# Altium schematic symbol library rlc.SchLib: 218 symbols (part 1 of 2)
Pins are listed as number, name and electrical type; pins without a type are passive.

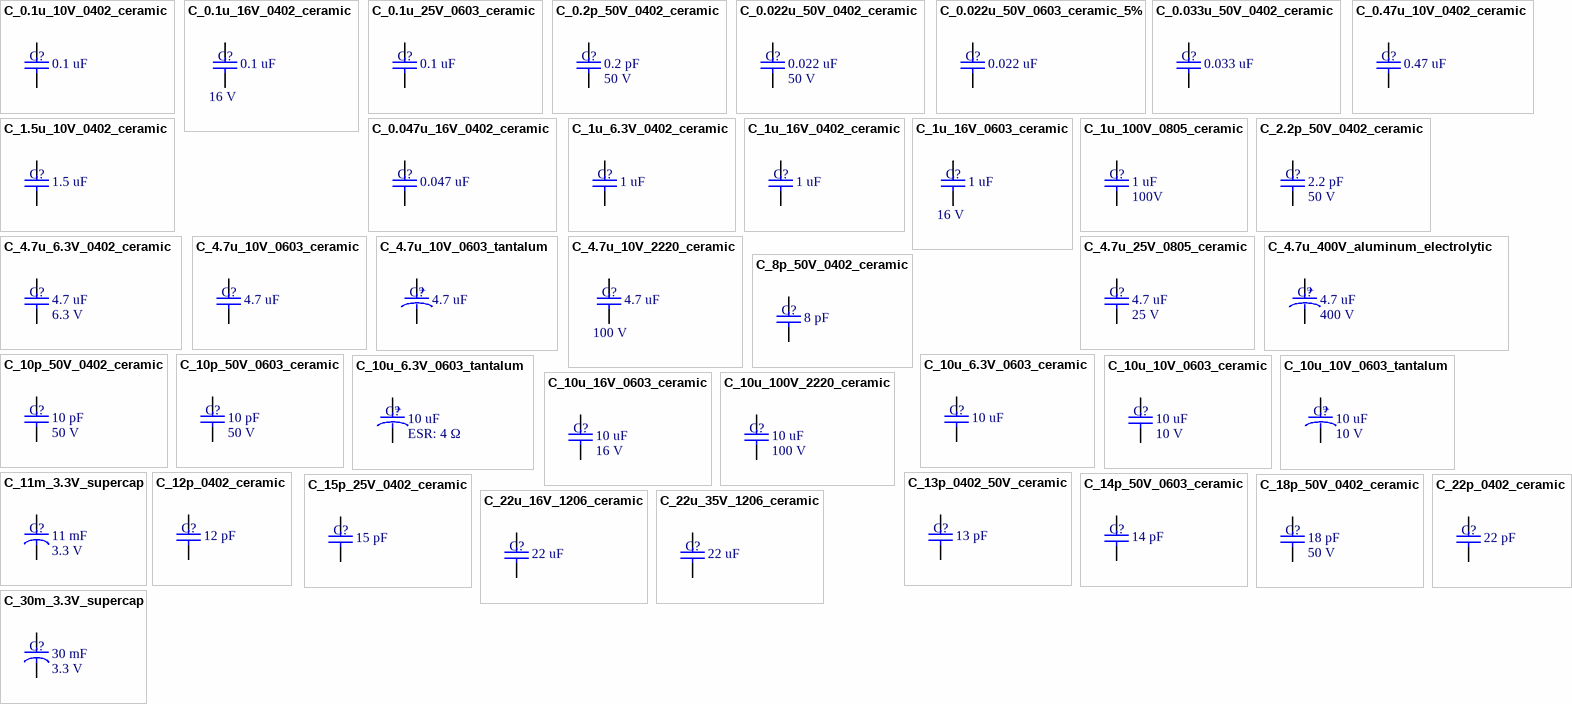
[diagram p0: symbols C_0.1u_10V_0402_ceramic to C_30m_3.3V_supercap]

## C_0.1u_10V_0402_ceramic
designator C?, comment value 0.1 uF  (hidden comment: Ceramic capacitor)
Ceramic capacitor, 0.1u, 0402 package; Manufacture: TDK; voltage rated: 10 V; tolerance: 10%; Supplier 1: Digi-Key; Supplier Part Number 1: 445-1265-1-ND; package: 0402
footprint 0402 (2-Leads, Body 1.00x0.50mm, IPC Medium Density)
pins: 1, 2

## C_0.1u_16V_0402_ceramic
designator C?, comment value 0.1 uF  voltage rated: 16 V  (hidden comment: Ceramic capacitor)
Ceramic capacitor, 0.1u, 16 V, 0402 package; Manufacture: Murata; tolerance: 10%; Temperature Coef: X7R; package: 0402; Supplier 1: Digi-Key; Supplier Part Number 1: 490-3261-1-ND
footprint 0402 (2-Leads, Body 1.00x0.50mm, IPC Medium Density)
pins: 1, 2

## C_0.1u_25V_0603_ceramic
designator C?, comment value 0.1 uF  (hidden comment: Ceramic capacitor)
Ceramic capacitor, 0.1 uF, 0603 package; Manufacture: TDK; voltage rated: 25V; tolerance: 10%; package: 0603; Supplier 1: Digi-Key; Supplier Part Number 1: 445-1316-1-ND
footprint 0603 (2-Leads, Body 1.55x0.85mm, IPC Medium Density)
pins: 1, 2

## C_0.2p_50V_0402_ceramic
designator C?, comment value 0.2 pF  voltage rated: 50 V  (hidden comment: Ceramic capacitor)
Ceramic capacitor, 0.2 pF, 0402 package; Manufacture: Johanson; tolerance: 0.05 pF; Temperature Coefficient: C0G; package: 0402; Supplier 1: Digi-Key; Supplier Part Number 1: 712-1244-1-ND
footprint 0402 (2-Leads, Body 1.00x0.50mm, IPC Medium Density)
pins: 1, 2

## C_0.022u_50V_0402_ceramic
designator C?, comment value 0.022 uF  voltage rated: 50 V  (hidden comment: Ceramic capacitor)
Ceramic capacitor, 0.022 uF, 0402 package; Manufacture: Murata; tolerance: 10%; Temperature Coefficient: X7R; package: 0402; Supplier 1: Digi-Key; Supplier Part Number 1: 490-3884-1-ND
footprint 0402 (2-Leads, Body 1.00x0.50mm, IPC Medium Density)
pins: 1, 2

## C_0.022u_50V_0603_ceramic_5%
designator C?, comment value 0.022 uF  (hidden comment: Ceramic capacitor)
Ceramic capacitor, 0.022 uF, 50 V, 0603 package, 5%; Manufacture: TDK; voltage rated: 50V; tolerance: 5%; package: 0603; Supplier 1: Digi-Key; Supplier Part Number 1: 445-7522-1-ND
footprint 0603 (2-Leads, Body 1.55x0.85mm, IPC Medium Density)
pins: 1, 2

## C_0.033u_50V_0402_ceramic
designator C?, comment value 0.033 uF  (hidden comment: Ceramic capacitor)
Ceramic capacitor, 0.033 uF, 0402 package; Manufacture: TDK; voltage rated: 50 V; tolerance: 10%; Temperature Coefficient: X7R; package: 0603; Supplier 1: Digi-Key; Supplier Part Number 1: 445-7334-1-ND
footprint 0402 (2-Leads, Body 1.00x0.50mm, IPC Medium Density)
pins: 1, 2

## C_0.47u_10V_0402_ceramic
designator C?, comment value 0.47 uF  (hidden comment: Ceramic capacitor)
Ceramic capacitor, 0.47 uF, 10V, 0402 package; Manufacture: TDK; tolerance: 10%; Temperature rating: X5R; voltage rated: 10 V; package: 0402; Supplier 1: Digi-Key; Supplier Part Number 1: 445-4989-1-ND
footprint 0402 (2-Leads, Body 1.00x0.50mm, IPC Medium Density)
pins: 1, 2

## C_0.047u_16V_0402_ceramic
designator C?, comment value 0.047 uF  (hidden comment: Ceramic capacitor)
Ceramic capacitor, 0.047u, 16V, 0402 package; Manufacture: TDK; tolerance: 10%; Temperature rating: X7R; voltage rated: 16 V; package: 0402; Supplier 1: Digi-Key; Supplier Part Number 1: 445-1264-1-ND
footprint 0402 (2-Leads, Body 1.00x0.50mm, IPC Medium Density)
pins: 1, 2

## C_1.5u_10V_0402_ceramic
designator C?, comment value 1.5 uF  (hidden comment: Ceramic capacitor)
Ceramic capacitor, 1.5 uF, 10V, 0402 package; Manufacture: TDK; tolerance: 10%; Temperature rating: X5R; voltage rated: 10 V; package: 0402; Supplier 1: Digi-Key; Supplier Part Number 1: 445-7390-1-ND
footprint 0402 (2-Leads, Body 1.00x0.50mm, IPC Medium Density)
pins: 1, 2

## C_1u_6.3V_0402_ceramic
designator C?, comment value 1 uF  (hidden comment: Ceramic capacitor)
Ceramic capacitor, 1 uF, 0402 package; Manufacture: TDK; voltage rated: 6.3 V; tolerance: 10%; package: 0402; Supplier 1: Digi-Key; Supplier Part Number 1: 445-5000-1-ND
footprint 0402 (2-Leads, Body 1.00x0.50mm, IPC Medium Density)
pins: 1, 2

## C_1u_16V_0402_ceramic
designator C?, comment value 1 uF  (hidden comment: Ceramic capacitor)
Ceramic capacitor, 1 uF, 16V, 0402 package; Manufacture: TDK; tolerance: 10%; Temperature rating: X5R; voltage rated: 16 V; package: 0402; Supplier 1: Digi-Key; Supplier Part Number 1: 445-4978-1-ND
footprint 0402 (2-Leads, Body 1.00x0.50mm, IPC Medium Density)
pins: 1, 2

## C_1u_16V_0603_ceramic
designator C?, comment value 1 uF  voltage rated: 16 V  (hidden comment: Ceramic capacitor)
Ceramic capacitor, 1 uF, 16 V, 0603 package; Manufacture: TDK; tolerance: 10%; package: 0603; Supplier 1: Digi-Key; Supplier Part Number 1: 445-1604-1-ND
footprint 0603 (2-Leads, Body 1.55x0.85mm, IPC Medium Density)
pins: 1, 2

## C_1u_100V_0805_ceramic
designator C?, comment value 1 uF  voltage rated: 100V  (hidden comment: Ceramic capacitor)
Ceramic capacitor, 1 uF, 100 V, 0805 package; Manufacture: TDK; tolerance: 10%; Temperature Coefficient: X7S; package: 0805; Supplier 1: Digi-Key; Supplier Part Number 1: 445-5205-1-ND
footprint 0805 (Chip Resistor, Body 2.0x1.2mm, IPC Low Density)
pins: 1, 2

## C_2.2p_50V_0402_ceramic
designator C?, comment value 2.2 pF  voltage rated: 50 V  (hidden comment: Ceramic capacitor)
Ceramic capacitor, 2.2 pF, 0402 package; Manufacture: Johanson; tolerance: 0.1 pF; Temperature Coefficient: C0G; package: 0402; Supplier 1: Digi-Key; Supplier Part Number 1: 712-1279-1-ND
footprint 0402 (2-Leads, Body 1.00x0.50mm, IPC Medium Density)
pins: 1, 2

## C_4.7u_6.3V_0402_ceramic
designator C?, comment value 4.7 uF  voltage rated: 6.3 V  (hidden comment: Ceramic capacitor)
Ceramic capacitor, 4.7 uF, 6.3V, 0402 package; Manufacture: Murata; tolerance: 20%; Temperature rating: X5R; package: 0402; Supplier 1: Digi-Key; Supplier Part Number 1: 490-5915-1-ND
footprint 0402 (2-Leads, Body 1.00x0.50mm, IPC Medium Density)
pins: 1, 2

## C_4.7u_10V_0603_ceramic
designator C?, comment value 4.7 uF  (hidden comment: Ceramic capacitor)
Ceramic capacitor, 4.7u, 10V, 0603 package; Manufacture: TDK; tolerance: 20%; Temp rating: X5R; package: 0603; voltage rated: 10 V; Supplier 1: Digi-Key; Supplier Part Number 1: 445-7482-1-ND
footprint 0603 (2-Leads, Body 1.55x0.85mm, IPC Medium Density)
pins: 1, 2

## C_4.7u_10V_0603_tantalum
designator C?, comment value 4.7 uF  (hidden comment: Tantalum capacitor)
Tantalum capacitor, 4.7 uF, 0603 package; Manufacture: Rohm; voltage rated: 10 V; tolerance: 20%; package: 0603; Supplier 1: Digi-Key; Supplier Part Number 1: 511-1496-1-ND
footprint 0603 - Polar Marking (2-Leads, Body 1.55x0.85mm, IPC Medium Density)
pins: 1, 2
text: +

## C_4.7u_10V_2220_ceramic
designator C?, comment value 4.7 uF  voltage rated: 100 V  (hidden comment: Ceramic capacitor)
Ceramic capacitor, 4.7u, 2220 package; Manufacture: TDK; tolerance: 20%; Temp rating: X7R; package: 2220; Supplier 1: Digi-Key; Supplier Part Number 1: 445-1450-1-ND
footprint 2220 (Chip Capacitor, 2-Leads, Body 5.70x5.00mm, IPC Medium Density)
pins: 1, 2

## C_4.7u_25V_0805_ceramic
designator C?, comment value 4.7 uF  voltage rated: 25 V  (hidden comment: Ceramic capacitor)
Ceramic capacitor, 4.7 uF, 25 V, 0805 package; Manufacture: Murata; tolerance: 10%; Temperature Coefficient: X5R; package: 0805; Supplier 1: Digi-Key; Supplier Part Number 1: 490-3335-1-ND
footprint 0805 (Chip Resistor, Body 2.0x1.2mm, IPC Low Density)
pins: 1, 2

## C_4.7u_400V_aluminum_electrolytic
designator C?, comment value 4.7 uF  voltage rated: 400 V  (hidden comment: Tantalum capacitor)
Aluminum - electrolytic capacitor, 4.7 uF, 400 V; Manufacture: Nichicon; tolerance: 20%; Supplier 1: Digi-Key; Supplier Part Number 1: 493-1229-ND
footprint nichicon_VR (nichicon VR series, 10x16)
pins: 1, 2
text: +

## C_8p_50V_0402_ceramic
designator C?, comment value 8 pF  (hidden comment: Ceramic capacitor)
Ceramic capacitor, 8 pF, 50V, 0402 package; Manufacture: Murata; tolerance: 0.1 pF; Temperature rating: C0G; voltage rated: 50 V; package: 0402; Supplier 1: Digi-Key; Supplier Part Number 1: 445-4989-1-ND
footprint 0402 (2-Leads, Body 1.00x0.50mm, IPC Medium Density)
pins: 1, 2

## C_10p_50V_0402_ceramic
designator C?, comment value 10 pF  voltage rated: 50 V  (hidden comment: Ceramic capacitor)
Ceramic capacitor, 10 pF, 16 V, 0402 package; Manufacture: Murata; tolerance: 1%; Temperature Coefficient: C0G; package: 0402; Supplier 1: Digi-Key; Supplier Part Number 1: 490-6186-1-ND
footprint 0402 (2-Leads, Body 1.00x0.50mm, IPC Medium Density)
pins: 1, 2

## C_10p_50V_0603_ceramic
designator C?, comment value 10 pF  voltage rated: 50 V  (hidden comment: Ceramic capacitor)
Ceramic capacitor, 10 pF, 16 V, 0603 package; Manufacture: Kemet; tolerance: 5%; Temperature Coefficient: C0G; package: 0603; Supplier 1: Digi-Key; Supplier Part Number 1: 399-1049-1-ND
footprint 0603 (2-Leads, Body 1.55x0.85mm, IPC Medium Density)
pins: 1, 2

## C_10u_6.3V_0603_ceramic
designator C?, comment value 10 uF  (hidden comment: Ceramic capacitor)
Ceramic capacitor, 10 uF, 0603 package; Manufacture: TDK; voltage rated: 6.3V; tolerance: 20%; package: 0603; Supplier 1: Digi-Key; Supplier Part Number 1: 445-4112-1-ND
footprint 0603 (2-Leads, Body 1.55x0.85mm, IPC Medium Density)
pins: 1, 2

## C_10u_6.3V_0603_tantalum
designator C?, comment value 10 uF  ESR: 4 Ω  (hidden comment: Tantalum capacitor)
Tantalum capacitor, 10 uF, 0603 package; Manufacture: AVX; voltage rated: 6.3V; tolerance: 10%; package: 0603; Supplier 1: Digi-Key; Supplier Part Number 1: 478-4959-1-ND
footprint 0603 - Polar Marking (2-Leads, Body 1.55x0.85mm, IPC Medium Density)
pins: 1, 2
text: +

## C_10u_10V_0603_ceramic
designator C?, comment value 10 uF  voltage rated: 10 V  (hidden comment: Ceramic capacitor)
Ceramic capacitor, 10 uF, 10 V, 0603 package; Manufacture: Murata; tolerance: 20%; Temperature Coefficient: X5R; package: 0603; Supplier 1: Digi-Key; Supplier Part Number 1: 490-7197-1-ND
footprint 0603 (2-Leads, Body 1.55x0.85mm, IPC Medium Density)
pins: 1, 2

## C_10u_10V_0603_tantalum
designator C?, comment value 10 uF  voltage rated: 10 V  (hidden comment: Tantalum capacitor)
Tantalum capacitor, 10 uF, 10 V, 0603 package; Manufacture: Rohm Semiconductor; tolerance: 10%; ESR: 9 Ω; package: 0603; Supplier 1: Digi-Key; Supplier Part Number 1: 511-1679-1-ND
footprint 0603 - Polar Marking (2-Leads, Body 1.55x0.85mm, IPC Medium Density)
pins: 1, 2
text: +

## C_10u_16V_0603_ceramic
designator C?, comment value 10 uF  voltage rated: 16 V  (hidden comment: Ceramic capacitor)
Ceramic capacitor, 10 uF, 16 V, 0603 package; Manufacture: TDK; tolerance: 20%; Temperature Coefficient: X5R; package: 0603; Supplier 1: Digi-Key; Supplier Part Number 1: 445-9065-1-ND
footprint 0603 (2-Leads, Body 1.55x0.85mm, IPC Medium Density)
pins: 1, 2

## C_10u_100V_2220_ceramic
designator C?, comment value 10 uF  voltage rated: 100 V  (hidden comment: Ceramic capacitor)
Ceramic capacitor, 10 uF, 100 V, 2220 package; Manufacture: TDK; tolerance: 20%; Temperature Coefficient: X7S; package: 0603; Supplier 1: Digi-Key; Supplier Part Number 1: 445-5212-1-ND
footprint 2220 (Chip Capacitor, 2-Leads, Body 5.70x5.00mm, IPC Medium Density)
pins: 1, 2

## C_11m_3.3V_supercap
designator C?, comment value 11 mF  voltage rated: 3.3 V  (hidden comment: Polyacene capacitor)
Polyacene capacitor, 11m; Manufacture: Taiyo; Supplier 1: Digi-Key; Supplier Part Number 1: 587-3260-1-ND
footprint PAS3225 (TAIYO YUDEN 3.2 x 2.5 mm polyacene capacitors)
pins: 1, 2

## C_12p_0402_ceramic
designator C?, comment value 12 pF  (hidden comment: Ceramic capacitor)
Ceramic capacitor, 12 pF, 0402 package; Manufacture: Johanson; voltage rated: 50 V; tolerance: 2%; package: 0402; Supplier 1: Digi-Key; Supplier Part Number 1: 712-1256-1-ND
footprint 0402 (2-Leads, Body 1.00x0.50mm, IPC Medium Density)
pins: 1, 2

## C_13p_0402_50V_ceramic
designator C?, comment value 13 pF  (hidden comment: Ceramic capacitor)
Ceramic capacitor, 13 pF, 50 V, 0402 package; Manufacture: Murata; voltage rated: 50 V; tolerance: 5%; package: 0402; Supplier 1: Digi-Key; Supplier Part Number 1: 490-5925-1-ND
footprint 0402 (2-Leads, Body 1.00x0.50mm, IPC Medium Density)
pins: 1, 2

## C_14p_50V_0603_ceramic
designator C?, comment value 14 pF  (hidden comment: Ceramic capacitor)
Ceramic capacitor, 14 pF, 50V, 0603 package; Manufacture: Samsung; tolerance: 5%; voltage rated: 50 V; package: 0603; Supplier 1: Digi-Key; Supplier Part Number 1: 1276-2187-1-ND
footprint 0603 (2-Leads, Body 1.55x0.85mm, IPC Medium Density)
pins: 1, 2

## C_15p_25V_0402_ceramic
designator C?, comment value 15 pF  (hidden comment: Ceramic capacitor)
Ceramic capacitor, 15 pF, 25V, 0402 package; Manufacture: Murata; tolerance: 5%; voltage rated: 25 V; package: 0402; Supplier 1: Digi-Key; Supplier Part Number 1: 490-8171-1-ND
footprint 0402 (2-Leads, Body 1.00x0.50mm, IPC Medium Density)
pins: 1, 2

## C_18p_50V_0402_ceramic
designator C?, comment value 18 pF  voltage rated: 50 V  (hidden comment: Ceramic capacitor)
Ceramic capacitor, 18 pF, 0402 package; Manufacture: Johanson; tolerance: 2%; Temperature Coefficient: C0G; package: 0402; Supplier 1: Digi-Key; Supplier Part Number 1: 712-1264-1-ND
footprint 0402 (2-Leads, Body 1.00x0.50mm, IPC Medium Density)
pins: 1, 2

## C_22p_0402_ceramic
designator C?, comment value 22 pF  (hidden comment: Ceramic capacitor)
Ceramic capacitor, 22 pF, 0402 package; Manufacture: Johanson; voltage rated: 50 V; tolerance: 2%; package: 0402; Supplier 1: Digi-Key; Supplier Part Number 1: 712-1274-1-ND
footprint 0402 (2-Leads, Body 1.00x0.50mm, IPC Medium Density)
pins: 1, 2

## C_22u_16V_1206_ceramic
designator C?, comment value 22 uF  (hidden comment: Ceramic capacitor)
Ceramic capacitor, 22 uF, 1206 package; Manufacture: Samsung; voltage rated: 16V; tolerance: 20%; package: 1206; Supplier 1: Digi-Key; Supplier Part Number 1: 1276-2728-1-ND
footprint 1206
pins: 1, 2

## C_22u_35V_1206_ceramic
designator C?, comment value 22 uF  (hidden comment: Ceramic capacitor)
Ceramic capacitor, 22 uF, 35 V, 1206 package; Manufacture: TDK; voltage rated: 35 V; tolerance: 20%; package: 1206; Supplier 1: Digi-Key; Supplier Part Number 1: 445-8045-1-ND
footprint 1206
pins: 1, 2

## C_30m_3.3V_supercap
designator C?, comment value 30 mF  voltage rated: 3.3 V  (hidden comment: Polyacene capacitor)
Polyacene capacitor, 30m; Manufacture: Taiyo; Supplier 1: Mouser; Supplier Part Number 1: 963-PAS311HR-VA6R
footprint 311-VA6R (TAIYO YUDEN supercap 311-VA6R series)
pins: 1, 2

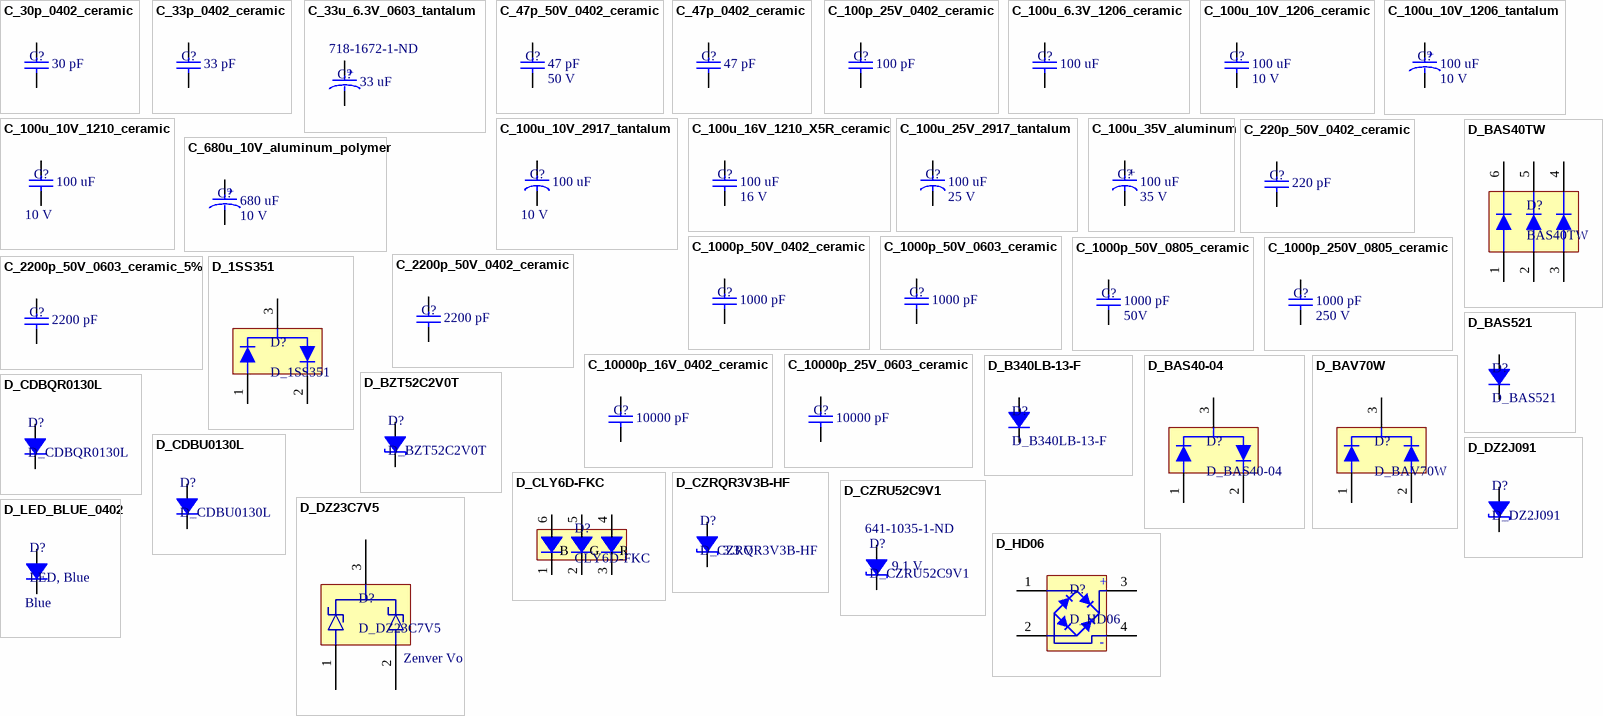
[diagram p1: symbols C_30p_0402_ceramic to D_LED_BLUE_0402]

## C_30p_0402_ceramic
designator C?, comment value 30 pF  (hidden comment: Ceramic capacitor)
Ceramic capacitor, 30 pF, 0402 package; Manufacture: Johanson; voltage rated: 50 V; tolerance: 2%; package: 0402; Supplier 1: Digi-Key; Supplier Part Number 1: 712-1295-1-ND
footprint 0402 (2-Leads, Body 1.00x0.50mm, IPC Medium Density)
pins: 1, 2

## C_33p_0402_ceramic
designator C?, comment value 33 pF  (hidden comment: Ceramic capacitor)
Ceramic capacitor, 33 pF, 0402 package; Manufacture: Murata; voltage rated: 50 V; tolerance: 5%; package: 0402; Supplier 1: Digi-Key; Supplier Part Number 1: 490-5936-1-ND
footprint 0402 (2-Leads, Body 1.00x0.50mm, IPC Medium Density)
pins: 1, 2

## C_33u_6.3V_0603_tantalum
designator C?, comment value 33 uF  Supplier Part Number 1: 718-1672-1-ND  (hidden comment: Tantalum capacitor)
Tantalum capacitor, 33 uF, 6.3 V, 0603 package; Manufacture: Vishay Sprague; voltage rated: 6.3 V; tolerance: 20%; package: 0603; Supplier 1: Digi-Key
footprint 0603 - Polar Marking (2-Leads, Body 1.55x0.85mm, IPC Medium Density)
pins: 1, 2
text: +

## C_47p_50V_0402_ceramic
designator C?, comment value 47 pF  voltage rated: 50 V  (hidden comment: Ceramic capacitor)
Ceramic capacitor, 47 pF, 0402 package; Manufacture: AVX; tolerance: 5%; package: 0402; Supplier 1: Digi-Key; Supplier Part Number 1: 478-1078-1-ND
footprint 0402 (2-Leads, Body 1.00x0.50mm, IPC Medium Density)
pins: 1, 2

## C_47p_0402_ceramic
designator C?, comment value 47 pF  (hidden comment: Ceramic capacitor)
Ceramic capacitor, 47 pF, 0402 package; Manufacture: Johanson; voltage rated: 50 V; tolerance: 5%; package: 0402; Supplier 1: Digi-Key; Supplier Part Number 1: 709-1121-1-ND
footprint 0402 (2-Leads, Body 1.00x0.50mm, IPC Medium Density)
pins: 1, 2

## C_100p_25V_0402_ceramic
designator C?, comment value 100 pF  (hidden comment: Ceramic capacitor)
Ceramic capacitor, 100 pF, 0402 package; Manufacture: Kemet; voltage rated: 25 V; tolerance: 1%; package: 0402; Supplier 1: Digi-Key; Supplier Part Number 1: 399-11246-1-ND
footprint 0402 (2-Leads, Body 1.00x0.50mm, IPC Medium Density)
pins: 1, 2

## C_100u_6.3V_1206_ceramic
designator C?, comment value 100 uF  (hidden comment: Ceramic capacitor)
Ceramic capacitor, 100 uF, 6.3 V, 1206 package; Manufacture: Murata; voltage rated: 6.3 V; tolerance: 20%; package: 1206; Supplier 1: Digi-Key; Supplier Part Number 1: 490-7217-1-ND
footprint 1206
pins: 1, 2

## C_100u_10V_1206_ceramic
designator C?, comment value 100 uF  voltage rated: 10 V  (hidden comment: Ceramic capacitor)
Ceramic capacitor, 100 uF, 10 V, 1206 package; Manufacture: TDK; tolerance: 20%; Temperature coef.: X5R; package: 1206; Supplier 1: Digi-Key; Supplier Part Number 1: 445-6007-1-ND
footprint 1206
pins: 1, 2

## C_100u_10V_1206_tantalum
designator C?, comment value 100 uF  voltage rated: 10 V  (hidden comment: Tantalum capacitor)
Tantalum capacitor, 100 uF, 10 V, 1206 package; Manufacture: AVX; tolerance: 20%; package: 1206; Supplier 1: Digi-Key; Supplier Part Number 1: 478-6251-1-ND
footprint 1206 - POLAR MARKING
pins: 1, 2
text: +

## C_100u_10V_1210_ceramic
designator C?, comment value 100 uF  voltage rated: 10 V  (hidden comment: Ceramic capacitor)
Ceramic capacitor, 100u, 1210 package; Manufacture: Samsung; tolerance: 20%; package: 2917; Supplier 1: Digi-Key; Supplier Part Number 1: 1276-3364-1-ND
footprint 1210
pins: 1, 2

## C_100u_10V_2917_tantalum
designator C?, comment value 100 uF  voltage rated: 10 V  (hidden comment: Ceramic capacitor)
Tantalum capacitor, 100u, 2917 package; Manufacture: Kemet; tolerance: 10%; package: 2917; Supplier 1: Digi-Key; Supplier Part Number 1: 399-3769-1-ND
footprint 2917 (Chip Capacitor, 2-Leads, Body 7.30x3.20mm, IPC Medium Density)
pins: 1, 2

## C_100u_16V_1210_X5R_ceramic
designator C?, comment value 100 uF  voltage rated: 16 V  (hidden comment: Ceramic capacitor)
Ceramic capacitor, 100u, 1210 package, X5R; Manufacture: Kemet; tolerance: 20%; package: 1210; Temperature Coef: X5R; Supplier 1: Digi-Key; Supplier Part Number 1: 399-11270-1-ND
footprint 1210
pins: 1, 2

## C_100u_25V_2917_tantalum
designator C?, comment value 100 uF  voltage rated: 25 V  (hidden comment: Ceramic capacitor)
Tantalum capacitor, 100u, 2917 package; Manufacture: Kemet; tolerance: 10%; package: 2917; Supplier 1: Digi-Key; Supplier Part Number 1: 399-8410-1-ND
footprint 2917 (Chip Capacitor, 2-Leads, Body 7.30x3.20mm, IPC Medium Density)
pins: 1, 2

## C_100u_35V_aluminum
designator C?, comment value 100 uF  voltage rated: 35 V  (hidden comment: Aluminum capacitor)
Aluminum capacitor, 100 uF, 35 V, KEMET EDK 9H; tolerance: 20%; Manufacture: Kemet; Supplier 1: Digi-Key; Supplier Part Number 1: 399-6671-1-ND
footprint KEMET_EDK_9H (Kemet surface mount aluminum capacitor EDK series 9H)
pins: 1, 2
text: +

## C_220p_50V_0402_ceramic
designator C?, comment value 220 pF  (hidden comment: Ceramic capacitor)
Ceramic capacitor, 220 pF, 0402 package; Manufacture: Johanson; voltage rated: 50 V; tolerance: 10%; package: 0402; Temperature: X7R; Supplier 1: Digi-Key; Supplier Part Number 1: 445-1254-1-ND
footprint 0402 (2-Leads, Body 1.00x0.50mm, IPC Medium Density)
pins: 1, 2

## C_680u_10V_aluminum_polymer
designator C?, comment value 680 uF  voltage rated: 10 V  (hidden comment: Tantalum capacitor)
Aluminum - Polymer capacitor, 680 uF, 10 V; Manufacture: Nichicon; tolerance: 20%; Supplier 1: Digi-Key; Supplier Part Number 1: 493-3714-ND
footprint nichicon_FCAP_R7 (nichicon R7 series, 10x12.5)
pins: 1, 2
text: +

## C_1000p_50V_0402_ceramic
designator C?, comment value 1000 pF  (hidden comment: Ceramic capacitor)
Ceramic capacitor, 1000 pF, 0402 package; Manufacture: TDK; voltage rated: 50 V; tolerance: 10%; package: 0402; Supplier 1: Digi-Key; Supplier Part Number 1: 445-6846-1-ND
footprint 0402 (2-Leads, Body 1.00x0.50mm, IPC Medium Density)
pins: 1, 2

## C_1000p_50V_0603_ceramic
designator C?, comment value 1000 pF  (hidden comment: Ceramic capacitor)
Ceramic capacitor, 1000 pF, 0603 package; Manufacture: TDK; voltage rated: 50V; tolerance: 10%; package: 0603; Supplier 1: Digi-Key; Supplier Part Number 1: 445-5659-1-ND
footprint 0603 (2-Leads, Body 1.55x0.85mm, IPC Medium Density)
pins: 1, 2

## C_1000p_50V_0805_ceramic
designator C?, comment value 1000 pF  voltage rated: 50V  (hidden comment: Ceramic capacitor)
Ceramic capacitor, 1000 pF, 50 V, 0805 package; Manufacture: Kemet; tolerance: 10%; Temperature Coefficient: X7R; package: 0805; Supplier 1: Digi-Key; Supplier Part Number 1: 399-1147-1-ND
footprint 0805 (Chip Resistor, Body 2.0x1.2mm, IPC Low Density)
pins: 1, 2

## C_1000p_250V_0805_ceramic
designator C?, comment value 1000 pF  voltage rated: 250 V  (hidden comment: Ceramic capacitor)
Ceramic capacitor, 1000 pF, 250 V, 0805 package; Manufacture: TDK; tolerance: 10%; Temperature Coefficient: X7R; package: 0805; Supplier 1: Digi-Key; Supplier Part Number 1: 445-2277-1-ND
footprint 0805 (Chip Resistor, Body 2.0x1.2mm, IPC Low Density)
pins: 1, 2

## C_2200p_50V_0402_ceramic
designator C?, comment value 2200 pF  (hidden comment: Ceramic capacitor)
Ceramic capacitor, 2200 pF, 0402 package; Manufacture: TDK; voltage rated: 50 V; tolerance: 10%; Temperature Coefficient: X7R; package: 0402; Supplier 1: Digi-Key; Supplier Part Number 1: 445-1257-1-ND
footprint 0402 (2-Leads, Body 1.00x0.50mm, IPC Medium Density)
pins: 1, 2

## C_2200p_50V_0603_ceramic_5%
designator C?, comment value 2200 pF  (hidden comment: Ceramic capacitor)
Ceramic capacitor, 2200 pF, 0603 package, 5%; Manufacture: Murata; voltage rated: 50V; tolerance: 5%; package: 0603; Supplier 1: Digi-Key; Supplier Part Number 1: 490-1459-1-ND
footprint 0603 (2-Leads, Body 1.55x0.85mm, IPC Medium Density)
pins: 1, 2

## C_10000p_16V_0402_ceramic
designator C?, comment value 10000 pF  (hidden comment: Ceramic capacitor)
Ceramic capacitor, 10000 pF, 16 V, 0402 package; Manufacture: Murata; voltage rated: 16 V; tolerance: 10%; Temperature Coefficient: X7R; package: 0402; Supplier 1: Digi-Key; Supplier Part Number 1: 490-1313-1-ND
footprint 0402 (2-Leads, Body 1.00x0.50mm, IPC Medium Density)
pins: 1, 2

## C_10000p_25V_0603_ceramic
designator C?, comment value 10000 pF  (hidden comment: Ceramic capacitor)
Ceramic capacitor, 10000 pF, 0603 package; Manufacture: TDK; voltage rated: 25V; tolerance: 10%; package: 0603; Supplier 1: Digi-Key; Supplier Part Number 1: 445-5100-1-ND
footprint 0603 (2-Leads, Body 1.55x0.85mm, IPC Medium Density)
pins: 1, 2

## D_1SS351
designator D?
SCHOTTKY BARRIER DIODE; Supplier 1: Digi-Key; Supplier Part Number 1: 1SS351-TB-EOSTR-ND
footprint SOT23-3 (SOT23, 3-Leads, Body 2.9x1.3mm, Pitch 0.95mm, Lead Span 2.3mm, IPC Medium Density)
pins: 1, 2, 3

## D_B340LB-13-F
designator D?
3.0A LOW VF SCHOTTKY BARRIER RECTIFIER; Supplier 1: Digi-Key; Supplier Part Number 1: B340LB-FDICT-ND
footprint B340LB (Diodes B340LB)
pins: 1, 2

## D_BAS40-04
designator D?
SURFACE MOUNT SCHOTTKY BARRIER DIODE; Supplier 1: Digi-Key; Supplier Part Number 1: BAS40-04FDICT-ND
footprint SOT23-3 (SOT23, 3-Leads, Body 2.9x1.3mm, Pitch 0.95mm, Lead Span 2.3mm, IPC Medium Density)
pins: 1, 2, 3

## D_BAS40TW
designator D?, comment BAS40TW
SURFACE MOUNT SCHOTTKY BARRIER DIODE ARRAYS; Supplier 1: Digi-Key; Supplier Part Number 1: BAS40TW-FDICT-ND
footprint SOT-363
pins: 1, 2, 3, 4, 5, 6

## D_BAS521
designator D?
HIGH VOLTAGE SWITCHING DIODE; Supplier 1: Digi-Key; Supplier Part Number 1: BAS521-7DICT-ND
footprint SOD523 (DIODES SOD523 package)
pins: 1, 2

## D_BAV70W
designator D?
DUAL SURFACE MOUNT SWITCHING DIODE; Supplier 1: Digi-Key; Supplier Part Number 1: BAV70W-FDICT-ND
footprint SOT323
pins: 1, 2, 3

## D_BZT52C2V0T
designator D?
SURFACE MOUNT ZENER DIODE; package: 0603; Supplier 1: Digi-Key; Supplier Part Number 1: BZT52C10T-7DICT-ND
footprint SOD523 (DIODES SOD523 package)
pins: 1, 2

## D_CDBQR0130L
designator D?
SMD Schottky Barrier Diode; package: 0402; Supplier 1: Digi-Key; Supplier Part Number 1: 641-1271-1-ND
footprint 0402 - DIODE (2-Leads, Body 1.00x0.50mm, IPC Medium Density)
pins: 1, 2

## D_CDBU0130L
designator D?
Schottky diode 30 V 0.1 A 0603; package: 0603; Supplier 1: Digi-Key; Supplier Part Number 1: 641-1282-1-ND
footprint 0603 - DIODE (2-Leads, Body 1.55x0.85mm, IPC Medium Density)
pins: 1, 2

## D_CLY6D-FKC
designator D?, comment CLY6D-FKC
CREE PLCC6 3 in 1 SMD LED; Supplier 1: Digi-Key; Supplier Part Number 1: CLY6D-FKC-CK1N1D1BB7D3D3CT-ND
footprint PLCC6 (CREE PLCC6 LED)
pins: 1, 2, 3, 4, 5, 6
text: B; G; R

## D_CZRQR3V3B-HF
designator D?  Zener voltage: 3.3 V
SMD Zener Diode; package: 0402; Supplier 1: Digi-Key; Supplier Part Number 1: 641-1682-1-ND
footprint 0402 - DIODE (2-Leads, Body 1.00x0.50mm, IPC Medium Density)
pins: 1, 2

## D_CZRU52C9V1
designator D?  Zener voltage: 9.1 V  Supplier Part Number 1: 641-1035-1-ND
SURFACE MOUNT ZENER DIODE; package: 0603; Supplier 1: Digi-Key
footprint 0603 - DIODE (2-Leads, Body 1.55x0.85mm, IPC Medium Density)
pins: 1, 2

## D_DZ2J091
designator D?
SURFACE MOUNT ZENER DIODE; Voltage: 9.1 V; Supplier 1: Digi-Key; Supplier Part Number 1: DZ2J091M0LCT-ND
footprint SC-90A (Panasonic SMini2-F5-B)
pins: 1, 2

## D_DZ23C7V5
designator D?  Zenver Voltage: 7.5 V
300mW DUAL SURFACE MOUNT ZENER DIODE; Supplier 1: Digi-Key; Supplier Part Number 1: DZ23C7V5-FDICT-ND
footprint SOT23-3 (SOT23, 3-Leads, Body 2.9x1.3mm, Pitch 0.95mm, Lead Span 2.3mm, IPC Medium Density)
pins: 1, 2, 3

## D_HD06
designator D?
0.8A SURFACE MOUNT GLASS PASSIVATED BRIDGE RECTIFIER; Supplier 1: Digi-Key; Supplier Part Number 1: HD04DICT-ND
footprint HD06 (Diodes - HD06)
pins: 1, 2, 3, 4
text: +; -

## D_LED_BLUE_0402
designator D?, comment LED, Blue  Color: Blue
LED, Blue, 0402; Forward Voltage: 2.9 V; Current @ VF: 5 mA; package: 0402; Supplier 1: Digi-Key; Supplier Part Number 1: 511-1615-1-ND
footprint 0402 - DIODE (2-Leads, Body 1.00x0.50mm, IPC Medium Density)
pins: 1, 2

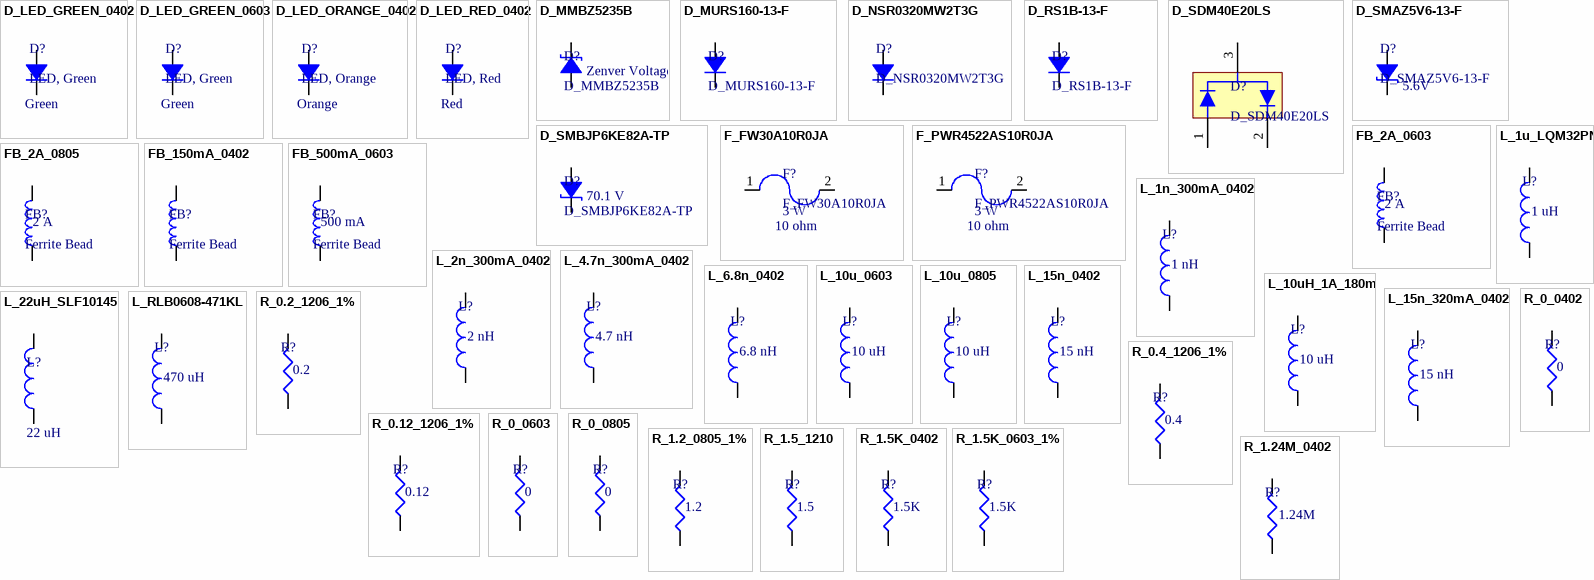
[diagram p2: symbols D_LED_GREEN_0402 to R_1.24M_0402]

## D_LED_GREEN_0402
designator D?, comment LED, Green  Color: Green
LED, Green,  0402; package: 0402; Supplier 1: Digi-Key; Supplier Part Number 1: 511-1592-1-ND
footprint 0402 - DIODE (2-Leads, Body 1.00x0.50mm, IPC Medium Density)
pins: 1, 2

## D_LED_GREEN_0603
designator D?, comment LED, Green  Color: Green
LED, Green,  0603; package: 0603; Supplier 1: Digi-Key; Supplier Part Number 1: 160-1446-1-ND
footprint 0603 - DIODE (2-Leads, Body 1.55x0.85mm, IPC Medium Density)
pins: 1, 2

## D_LED_ORANGE_0402
designator D?, comment LED, Orange  Color: Orange
LED, Orange, 0402; Supplier 1: Digi-Key; Supplier Part Number 1: 511-1590-1-ND; package: 0402
footprint 0402 - DIODE (2-Leads, Body 1.00x0.50mm, IPC Medium Density)
pins: 1, 2

## D_LED_RED_0402
designator D?, comment LED, Red  Color: Red
LED, Red, 0402; package: 0402; Supplier 1: Digi-Key; Supplier Part Number 1: 511-1593-1-ND
footprint 0402 - DIODE (2-Leads, Body 1.00x0.50mm, IPC Medium Density)
pins: 1, 2

## D_MMBZ5235B
designator D?  Zenver Voltage: 6.8 V
350mW DUAL SURFACE MOUNT ZENER DIODE; Supplier 1: Digi-Key; Supplier Part Number 1: MMBZ5235B-FDICT-ND
footprint SOT23-3 (SOT23, 3-Leads, Body 2.9x1.3mm, Pitch 0.95mm, Lead Span 2.3mm, IPC Medium Density)
pins: 1, 3

## D_MURS160-13-F
designator D?
1.0A SURFACE MOUNT SUPER-FAST RECTIFIER; Supplier 1: Digi-Key; Supplier Part Number 1: MURS160-FDICT-ND
footprint MURS140 - MURS160 (Diodes MURS140 - MURS160)
pins: 1, 2

## D_NSR0320MW2T3G
designator D?
Schottky Barrier Diodes; package: 0603; Supplier 1: Digi-Key; Supplier Part Number 1: NSR0320MW2T1GOSCT-ND
footprint SOD-323
pins: 1, 2

## D_RS1B-13-F
designator D?
1.0A SURFACE MOUNT FAST RECOVERY RECTIFIER; Supplier 1: Digi-Key; Supplier Part Number 1: RS1B-FDICT-ND
footprint RS1B (Diodes RS1B)
pins: 1, 2

## D_SDM40E20LS
designator D?
DUAL SURFACE MOUNT SCHOTTKY BARRIER DIODE; Supplier 1: Digi-Key; Supplier Part Number 1: SDM40E20LS-FDICT-ND
footprint SOT23-3 (SOT23, 3-Leads, Body 2.9x1.3mm, Pitch 0.95mm, Lead Span 2.3mm, IPC Medium Density)
pins: 1, 2, 3

## D_SMAZ5V6-13-F
designator D?  Zf: 5.6V
SURFACE MOUNT ZENER DIODE; Supplier 1: Digi-Key; Supplier Part Number 1: SMAZ5V6-FDICT-ND
footprint SMAZ5V1
pins: 1, 2

## D_SMBJP6KE82A-TP
designator D?  Zener Voltage: 70.1 V
Transient  Voltage Suppressor  6.8 to 550 Volts  600 Watt; Supplier 1: Digi-Key; Supplier Part Number 1: SMBJP6KE82A-TPMSCT-ND
footprint DO-214AA (SMBJ) (Micro Commercial Components - DO214AA)
pins: 1, 2

## F_FW30A10R0JA
designator F?  value 10 ohm  Power: 3 W
Fuse, 10 ohm, 3W Axial; Supplier 1: Digi-Key; Supplier Part Number 1: FW30A10R0JACT-ND
footprint FW30A (Bourns FW30A through hole resistor)
pins: 1, 2

## F_PWR4522AS10R0JA
designator F?  value 10 ohm  Power: 3 W
Fuse, 10 ohm, 3W Axial; Supplier 1: Mouser; Supplier Part Number 1: 652-PWR4522AS10R0JA; Supplier 2: Digi-Key; Supplier Part Number 2: PWR4522AS10R0JACT-ND
footprint PWR4522 (Bourns PWR4522)
pins: 1, 2

## FB_2A_0603
designator FB?, comment Ferrite Bead  current rating: 2 A
Ferrite Bead, 2 A, 0603 package; DC resistance: 50 m; package: 0603; Supplier 1: Digi-Key; Supplier Part Number 1: 553-2387-1-ND
footprint 0603 (2-Leads, Body 1.55x0.85mm, IPC Medium Density)
pins: 1, 2

## FB_2A_0805
designator FB?, comment Ferrite Bead  current rating: 2 A
Ferrite Bead, 2 A, 0805 package; DC resistance: 70 m; package: 0805; Supplier 1: Digi-Key; Supplier Part Number 1: 553-2393-1-ND
footprint 0805 (Chip Resistor, Body 2.0x1.2mm, IPC Low Density)
pins: 1, 2

## FB_150mA_0402
designator FB?, comment Ferrite Bead
Ferrite Bead, 150 mA, 0402 package; impedance@Freq: 1K@100 MHz; current rating: 150 mA; Supplier 1: Digi-Key; Supplier Part Number 1: 587-1835-1-ND; package: 0402
footprint 0402 (2-Leads, Body 1.00x0.50mm, IPC Medium Density)
pins: 1, 2

## FB_500mA_0603
designator FB?, comment Ferrite Bead  current rating: 500 mA
Ferrite Bead, 500 mA, 0603 package; impedance@Freq: 120@100 MHz; DC resistance: 180 m; package: 0603; Supplier 1: Digi-Key; Supplier Part Number 1: 490-1011-1-ND
footprint 0603 (2-Leads, Body 1.55x0.85mm, IPC Medium Density)
pins: 1, 2

## L_1n_300mA_0402
designator L?, comment value 1 nH  (hidden comment: Chip inductor)
Chip inductor, 1 nH, 0402 package, 300 mA; tolerance: 0.3 nH; Current Rating: 300 mA; package: 0402; Supplier 1: Digi-Key; Supplier Part Number 1: 490-1073-1-ND
footprint 0402 (2-Leads, Body 1.00x0.50mm, IPC Medium Density)
pins: 1, 2

## L_1u_LQM32PN
designator L?, comment value 1 uH  (hidden comment: Chip inductor)
Chip inductor, 1 uH, 1210 package, LQM32PN; tolerance: 20%; package: 1210; Supplier 1: Digi-Key; Supplier Part Number 1: 490-10767-1-ND
footprint 1210
pins: 1, 2

## L_2n_300mA_0402
designator L?, comment value 2 nH  (hidden comment: Chip inductor)
Chip inductor, 2 nH, 0402 package, 300 mA; tolerance: 0.3 nH; Current Rating: 300 mA; package: 0402; Supplier 1: Digi-Key; Supplier Part Number 1: 490-6558-1-ND
footprint 0402 (2-Leads, Body 1.00x0.50mm, IPC Medium Density)
pins: 1, 2

## L_4.7n_300mA_0402
designator L?, comment value 4.7 nH  (hidden comment: Chip inductor)
Chip inductor, 4.7 nH, 0402 package, 300 mA; tolerance: 0.3 nH; Current Rating: 300 mA; package: 0402; Supplier 1: Digi-Key; Supplier Part Number 1: 490-2618-1-ND
footprint 0402 (2-Leads, Body 1.00x0.50mm, IPC Medium Density)
pins: 1, 2

## L_6.8n_0402
designator L?, comment value 6.8 nH  (hidden comment: Chip inductor)
Chip inductor, 6.8 nH, 0402 package; tolerance: 5%; package: 0402; Supplier 1: Digi-Key; Supplier Part Number 1: 712-1419-1-ND
footprint 0402 (2-Leads, Body 1.00x0.50mm, IPC Medium Density)
pins: 1, 2

## L_10u_0603
designator L?, comment value 10 uH  (hidden comment: Chip inductor)
Chip inductor, 10 uH, 0603 package; tolerance: 20%; package: 0603; Supplier 1: Digi-Key; Supplier Part Number 1: 445-3608-1-ND
footprint 0603 (2-Leads, Body 1.55x0.85mm, IPC Medium Density)
pins: 1, 2

## L_10u_0805
designator L?, comment value 10 uH  (hidden comment: Chip inductor)
Chip inductor, 10 uH, 0805 package; tolerance: 5%; package: 0805; Supplier 1: Digi-Key; Supplier Part Number 1: 732-3452-1-ND
footprint 0805 (Chip Resistor, Body 2.0x1.2mm, IPC Low Density)
pins: 1, 2

## L_10uH_1A_180m
designator L?, comment value 10 uH  (hidden comment: Chip inductor)
Chip inductor, 10 uH,  1A, 180 mOhm; tolerance: 30%; Supplier 1: Digi-Key; Supplier Part Number 1: 308-1959-1-ND
footprint CDRH2D18 (Sumdia SMD power inductor)
pins: 1, 2

## L_15n_320mA_0402
designator L?, comment value 15 nH  (hidden comment: Chip inductor)
Chip inductor, 15 nH, 0402 package, 320 mA; tolerance: 5%; Current Rating: 320 mA; package: 0402; Supplier 1: Digi-Key; Supplier Part Number 1: 712-1408-1-ND
footprint 0402 (2-Leads, Body 1.00x0.50mm, IPC Medium Density)
pins: 1, 2

## L_15n_0402
designator L?, comment value 15 nH  (hidden comment: Chip inductor)
Chip inductor, 15 nH, 0402 package; tolerance: 5%; package: 0402; Supplier 1: Digi-Key; Supplier Part Number 1: 712-1408-1-ND
footprint 0402 (2-Leads, Body 1.00x0.50mm, IPC Medium Density)
pins: 1, 2

## L_22uH_SLF10145
designator L?  value 22 uH  (hidden comment: L_22uH_SLF10145)
Inductor, 22 uH, TDK SLF10145; Saturation current: 2.1 A; Supplier 1: Digi-Key; Supplier Part Number 1: 445-1981-1-ND
footprint SLF10145 (TDK chip inductors)
pins: 1, 2

## L_RLB0608-471KL
designator L?  value 470 uH  (hidden comment: L_RLB0608-471KL)
Bourns RLB Series Radial Inductors, 470 uH; tolerance: 10%; Supplier 1: Digi-Key; Supplier Part Number 1: RLB0608-471KL-ND
footprint RLB0608 Series (Bourns RLB Radial Inductors)
pins: 1, 2

## R_0.2_1206_1%
designator R?, comment value 0.2  (hidden comment: Chip resistor)
Chip resistor, 0.2, 1206 package, current sense; tolerance: 1%; power: 0.5 W; Temperature Coef: 100 ppm; package: 1206; Supplier 1: Digi-Key; Supplier Part Number 1: CSR1206FKR200CT-ND
footprint 1206
pins: 1, 2

## R_0.4_1206_1%
designator R?, comment value 0.4  (hidden comment: Chip resistor)
Chip resistor, 0.4, 1206 package, current sense; tolerance: 1%; power: 0.25 W; Temperature Coef: 300 ppm; package: 1206; Supplier 1: Digi-Key; Supplier Part Number 1: 311-.4LWCT-ND
footprint 1206
pins: 1, 2

## R_0.12_1206_1%
designator R?, comment value 0.12  (hidden comment: Chip resistor)
Chip resistor, 0.12, 1206 package, current sense; tolerance: 1%; power: 0.5 W; Temperature Coef: 100 ppm; package: 1206; Supplier 1: Digi-Key; Supplier Part Number 1: RL16R.12FCT-ND
footprint 1206
pins: 1, 2

## R_0_0402
designator R?, comment value 0  (hidden comment: Chip resistor)
Chip resistor, 0, 0402 package; package: 0402; Supplier 1: Digi-Key; Supplier Part Number 1: 541-0.0YBCT-ND
footprint 0402 (Chip Resistor, 2-Leads, Body 1.00x0.50mm, IPC Medium Density)
pins: 1, 2

## R_0_0603
designator R?, comment value 0  (hidden comment: Chip resistor)
Chip resistor, 0, 0603 package; package: 0603; Supplier 1: Digi-Key; Supplier Part Number 1: 541-0.0GCT-ND
footprint 0603 (2-Leads, Body 1.55x0.85mm, IPC Medium Density)
pins: 1, 2

## R_0_0805
designator R?, comment value 0  (hidden comment: Chip resistor)
Chip resistor, 0, 0805 package; power: 1/8 W; package: 0805; Supplier 1: Digi-Key; Supplier Part Number 1: 541-0.0ACT-ND
footprint 0805 (Chip Resistor, Body 2.0x1.2mm, IPC Low Density)
pins: 1, 2

## R_1.2_0805_1%
designator R?, comment value 1.2  (hidden comment: Chip resistor)
Chip resistor, 1.2, 0805 package, current sense; tolerance: 1%; power: 0.333 W; Temperature Coef: 200 ppm; package: 0805; Supplier 1: Digi-Key; Supplier Part Number 1: RL12S1.2FCT-ND
footprint 0805 (Chip Resistor, Body 2.0x1.2mm, IPC Low Density)
pins: 1, 2

## R_1.5_1210
designator R?, comment value 1.5  (hidden comment: Chip resistor)
Chip resistor, 1.5, 1210 package; power: 0.5 W; package: 1210; Supplier 1: Digi-Key; Supplier Part Number 1: P1.5VTR-ND
footprint 1210
pins: 1, 2

## R_1.5K_0402
designator R?, comment value 1.5K  (hidden comment: Chip resistor)
Chip resistor, 1.5K, 0402 package; tolerance: 1%; power: 1/16 W; package: 0402; Supplier 1: Digi-Key; Supplier Part Number 1: 541-1.50KLCT-ND
footprint 0402 (Chip Resistor, 2-Leads, Body 1.00x0.50mm, IPC Medium Density)
pins: 1, 2

## R_1.5K_0603_1%
designator R?, comment value 1.5K  (hidden comment: Chip resistor)
Chip resistor, 1.5 K, 0603 package; tolerance: 1%; power: 1/10 W; Temperature Coef: 100 ppm; package: 0603; Supplier 1: Digi-Key; Supplier Part Number 1: 541-1.50KHCT-ND
footprint 0603 (2-Leads, Body 1.55x0.85mm, IPC Medium Density)
pins: 1, 2

## R_1.24M_0402
designator R?, comment value 1.24M  (hidden comment: Chip resistor)
Chip resistor, 1.24M, 0402 package; tolerance: 1%; power: 1/16 W; package: 0402; Supplier 1: Digi-Key; Supplier Part Number 1: 541-1.24MLCT-ND
footprint 0402 (Chip Resistor, 2-Leads, Body 1.00x0.50mm, IPC Medium Density)
pins: 1, 2

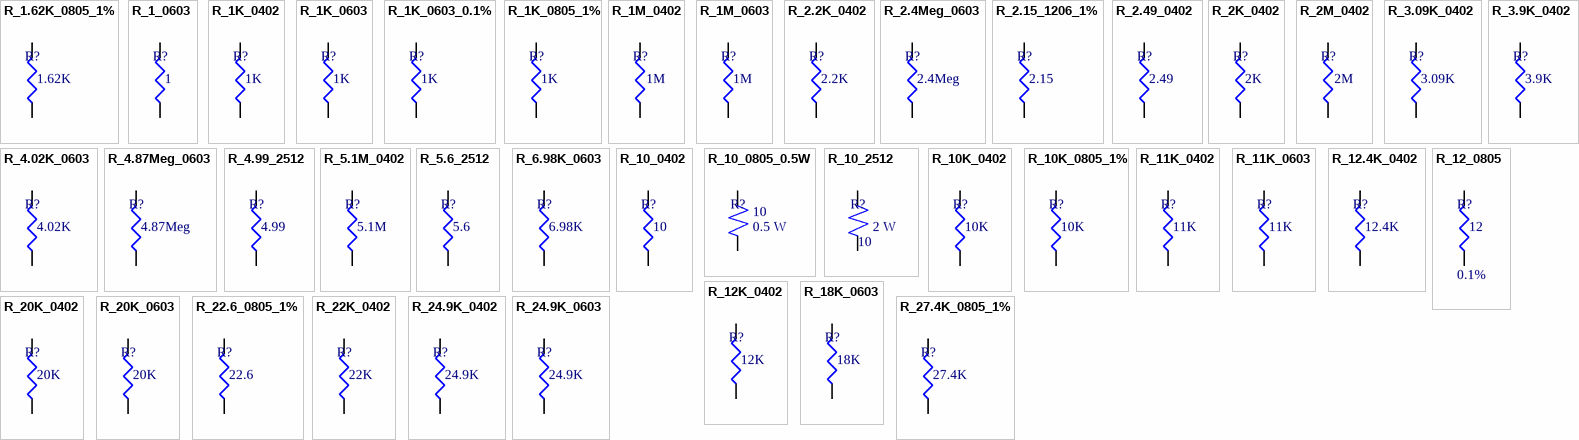
[diagram p3: symbols R_1.62K_0805_1% to R_27.4K_0805_1%]

## R_1.62K_0805_1%
designator R?, comment value 1.62K  (hidden comment: Chip resistor)
Chip resistor, 1.62K, 0805 package, 1%; power: 1/8 W; tolerance: 1%; package: 0805; Supplier 1: Digi-Key; Supplier Part Number 1: 541-1.62KCCT-ND
footprint 0805 (Chip Resistor, Body 2.0x1.2mm, IPC Low Density)
pins: 1, 2

## R_1_0603
designator R?, comment value 1  (hidden comment: Chip resistor)
Chip resistor, 1,  0603 package; tolerance: 1%; power: 1/10 W; Temperature Coefficient: 100 ppm; package: 0603; Supplier 1: Digi-Key; Supplier Part Number 1: 541-1.00HHCT-ND
footprint 0603 (2-Leads, Body 1.55x0.85mm, IPC Medium Density)
pins: 1, 2

## R_1K_0402
designator R?, comment value 1K  (hidden comment: Chip resistor)
Chip resistor, 1K, 0402 package; tolerance: 1%; power: 1/16 W; Supplier 1: Digi-Key; Supplier Part Number 1: 541-1.00KLCT-ND; package: 0402
footprint 0402 (Chip Resistor, 2-Leads, Body 1.00x0.50mm, IPC Medium Density)
pins: 1, 2

## R_1K_0603
designator R?, comment value 1K  (hidden comment: Chip resistor)
Chip resistor, 1 K, 0603 package; tolerance: 1%; power: 1/10 W; Temperature Coef: 100 ppm; package: 0603; Supplier 1: Digi-Key; Supplier Part Number 1: 541-1.00KHCT-ND
footprint 0603 (2-Leads, Body 1.55x0.85mm, IPC Medium Density)
pins: 1, 2

## R_1K_0603_0.1%
designator R?, comment value 1K  (hidden comment: Chip resistor)
Chip resistor, 1 K, 0603 package; tolerance: 0.1%; power: 1/10 W; Temperature Coef: 25 ppm; package: 0603; Supplier 1: Digi-Key; Supplier Part Number 1: P1.0KDBCT-ND
footprint 0603 (2-Leads, Body 1.55x0.85mm, IPC Medium Density)
pins: 1, 2

## R_1K_0805_1%
designator R?, comment value 1K  (hidden comment: Chip resistor)
Chip resistor, 1K, 0805 package, 1%; power: 1/8 W; tolerance: 1%; package: 0805; Supplier 1: Digi-Key; Supplier Part Number 1: 541-1.00KCCT-ND
footprint 0805 (Chip Resistor, Body 2.0x1.2mm, IPC Low Density)
pins: 1, 2

## R_1M_0402
designator R?, comment value 1M  (hidden comment: Chip resistor)
Chip resistor, 1M, 0402 package; tolerance: 1%; power: 1/16 W; Supplier 1: Digi-Key; Supplier Part Number 1: 541-1.00MLCT-ND; package: 0402
footprint 0402 (Chip Resistor, 2-Leads, Body 1.00x0.50mm, IPC Medium Density)
pins: 1, 2

## R_1M_0603
designator R?, comment value 1M  (hidden comment: Chip resistor)
Chip resistor, 1 Meg, 0603 package; tolerance: 1%; power: 1/10 W; package: 0603; Supplier 1: Digi-Key; Supplier Part Number 1: 541-1.00MHCT-ND
footprint 0603 (2-Leads, Body 1.55x0.85mm, IPC Medium Density)
pins: 1, 2

## R_2.2K_0402
designator R?, comment value 2.2K  (hidden comment: Chip resistor)
Chip resistor, 2.2K, 0402 package; tolerance: 1%; power: 1/16 W; package: 0402; Supplier 1: Digi-Key; Supplier Part Number 1: 541-2.20KLCT-ND
footprint 0402 (Chip Resistor, 2-Leads, Body 1.00x0.50mm, IPC Medium Density)
pins: 1, 2

## R_2.4Meg_0603
designator R?, comment value 2.4Meg  (hidden comment: Chip resistor)
Chip resistor, 2.4Meg, 0603 package; tolerance: 1%; power: 1/10 W; package: 0603; Supplier 1: Digi-Key; Supplier Part Number 1: 541-2.40MHCT-ND
footprint 0603 (2-Leads, Body 1.55x0.85mm, IPC Medium Density)
pins: 1, 2

## R_2.15_1206_1%
designator R?, comment value 2.15  (hidden comment: Chip resistor)
Chip resistor, 2.15, 1%, 1206 package; power: 1/4 W; tolerance: 1%; package: 1206; Supplier 1: Digi-Key; Supplier Part Number 1: 541-2.15FFCT-ND
footprint 1206
pins: 1, 2

## R_2.49_0402
designator R?, comment value 2.49  (hidden comment: Chip resistor)
Chip resistor, 2.49, 0402 package; tolerance: 1%; power: 1/16 W; package: 0402; Supplier 1: Digi-Key; Supplier Part Number 1: 541-2.49LLCT-ND
footprint 0402 (Chip Resistor, 2-Leads, Body 1.00x0.50mm, IPC Medium Density)
pins: 1, 2

## R_2K_0402
designator R?, comment value 2K  (hidden comment: Chip resistor)
Chip resistor, 2K, 0402 package; tolerance: 1%; power: 1/16 W; package: 0402; Supplier 1: Digi-Key; Supplier Part Number 1: 541-2.00KLCT-ND
footprint 0402 (Chip Resistor, 2-Leads, Body 1.00x0.50mm, IPC Medium Density)
pins: 1, 2

## R_2M_0402
designator R?, comment value 2M  (hidden comment: Chip resistor)
Chip resistor, 2M, 0402 package; tolerance: 1%; power: 1/16 W; package: 0402; Supplier 1: Digi-Key; Supplier Part Number 1: 541-2.00MLCT-ND
footprint 0402 (Chip Resistor, 2-Leads, Body 1.00x0.50mm, IPC Medium Density)
pins: 1, 2

## R_3.09K_0402
designator R?, comment value 3.09K  (hidden comment: Chip resistor)
Chip resistor, 3.09K, 0402 package; tolerance: 1%; power: 1/16 W; package: 0402; Supplier 1: Digi-Key; Supplier Part Number 1: 541-3.09KLCT-ND
footprint 0402 (Chip Resistor, 2-Leads, Body 1.00x0.50mm, IPC Medium Density)
pins: 1, 2

## R_3.9K_0402
designator R?, comment value 3.9K  (hidden comment: Chip resistor)
Chip resistor, 3.9K, 0402 package; tolerance: 1%; power: 1/16 W; package: 0402; Supplier 1: Digi-Key; Supplier Part Number 1: 311-3.90KLRCT-ND
footprint 0402 (Chip Resistor, 2-Leads, Body 1.00x0.50mm, IPC Medium Density)
pins: 1, 2

## R_4.02K_0603
designator R?, comment value 4.02K  (hidden comment: Chip resistor)
Chip resistor, 4.02K, 0603 package; tolerance: 1%; power: 1/10 W; package: 0603; Supplier 1: Digi-Key; Supplier Part Number 1: 541-4.02KHCT-ND
footprint 0603 (2-Leads, Body 1.55x0.85mm, IPC Medium Density)
pins: 1, 2

## R_4.87Meg_0603
designator R?, comment value 4.87Meg  (hidden comment: Chip resistor)
Chip resistor, 4.87Meg, 0603 package; tolerance: 1%; power: 1/10 W; package: 0603; Supplier 1: Digi-Key; Supplier Part Number 1: 541-4.87MHCT-ND
footprint 0603 (2-Leads, Body 1.55x0.85mm, IPC Medium Density)
pins: 1, 2

## R_4.99_2512
designator R?, comment value 4.99  (hidden comment: Chip resistor)
Chip resistor, 4.99, 2512 package; tolerance: 1%; power: 1 W; Temperature Coefficient: 100 ppm; package: 2512; Supplier 1: Digi-Key; Supplier Part Number 1: 541-4.99AFCT-ND
footprint 2512 (Chip Capacitor, 2-Leads, Body 6.30x3.10mm, IPC Medium Density)
pins: 1, 2

## R_5.1M_0402
designator R?, comment value 5.1M  (hidden comment: Chip resistor)
Chip resistor, 5.1M,  0402 package; tolerance: 5%; power: 1/16 W; package: 0402; Supplier 1: Digi-Key; Supplier Part Number 1: 541-5.1MJCT-ND
footprint 0402 (Chip Resistor, 2-Leads, Body 1.00x0.50mm, IPC Medium Density)
pins: 1, 2

## R_5.6_2512
designator R?, comment value 5.6  (hidden comment: Chip resistor)
Chip resistor, 5.6, 2512 package; tolerance: 1%; power: 1 W; Temperature Coefficient: 100 ppm; package: 2512; Supplier 1: Digi-Key; Supplier Part Number 1: PT5.6YCT-ND
footprint 2512 (Chip Capacitor, 2-Leads, Body 6.30x3.10mm, IPC Medium Density)
pins: 1, 2

## R_6.98K_0603
designator R?, comment value 6.98K  (hidden comment: Chip resistor)
Chip resistor, 6.98K, 0603 package; tolerance: 1%; power: 1/10 W; package: 0603; Supplier 1: Digi-Key; Supplier Part Number 1: 311-6.98KHRCT-ND
footprint 0603 (2-Leads, Body 1.55x0.85mm, IPC Medium Density)
pins: 1, 2

## R_10_0402
designator R?, comment value 10  (hidden comment: Chip resistor)
Chip resistor, 10, 0402 package; tolerance: 1%; power: 1/16 W; package: 0402; Supplier 1: Digi-Key; Supplier Part Number 1: 541-10.0LCT-ND
footprint 0402 (Chip Resistor, 2-Leads, Body 1.00x0.50mm, IPC Medium Density)
pins: 1, 2

## R_10_0805_0.5W
designator R?, comment value 10  Power: 0.5 W  (hidden comment: R_10_0805)
Resistor, 10 ohm, 0.5 W, 0805 package; Tolerance: 5%; Supplier 1: Digi-Key; Supplier Part Number 1: P10ADCT-ND
footprint 0805 (Chip Resistor, Body 2.0x1.2mm, IPC Low Density)
pins: 1, 2

## R_10_2512
designator R?  value 10  Power: 2 W  (hidden comment: R_10_2512)
Resistor, 10 ohm, 2512 package; Tolerance: 5%; Supplier 1: Digi-Key; Supplier Part Number 1: CRM2512-JW-100ELFCT-ND
footprint 2512 (Chip Capacitor, 2-Leads, Body 6.30x3.10mm, IPC Medium Density)
pins: 1, 2

## R_10K_0402
designator R?, comment value 10K  (hidden comment: Chip resistor)
Chip resistor, 10K, 0402 package; tolerance: 1%; power: 1/16 W; package: 0402; Supplier 1: Digi-Key; Supplier Part Number 1: 541-10.0KLCT-ND
footprint 0402 (Chip Resistor, 2-Leads, Body 1.00x0.50mm, IPC Medium Density)
pins: 1, 2

## R_10K_0805_1%
designator R?, comment value 10K  (hidden comment: Chip resistor)
Chip resistor, 10K, 0805 package, 1%; power: 1/8 W; tolerance: 1%; package: 0805; Supplier 1: Digi-Key; Supplier Part Number 1: 541-10.0KCCT-ND
footprint 0805 (Chip Resistor, Body 2.0x1.2mm, IPC Low Density)
pins: 1, 2

## R_11K_0402
designator R?, comment value 11K  (hidden comment: Chip resistor)
Chip resistor, 11K, 0603 package; tolerance: 1%; power: 1/16 W; package: 0402; Supplier 1: Digi-Key; Supplier Part Number 1: 541-11.0KLCT-ND
footprint 0402 (2-Leads, Body 1.00x0.50mm, IPC Medium Density)
pins: 1, 2

## R_11K_0603
designator R?, comment value 11K  (hidden comment: Chip resistor)
Chip resistor, 11K, 0603 package; tolerance: 1%; power: 1/10 W; package: 0603; Supplier 1: Digi-Key; Supplier Part Number 1: 541-11.0KHCT-ND
footprint 0603 (2-Leads, Body 1.55x0.85mm, IPC Medium Density)
pins: 1, 2

## R_12.4K_0402
designator R?, comment value 12.4K  (hidden comment: Chip resistor)
Chip resistor, 12.4K, 0402 package; tolerance: 1%; power: 1/16 W; package: 0402; Supplier 1: Digi-Key; Supplier Part Number 1: 311-12.4KLRCT-ND
footprint 0402 (Chip Resistor, 2-Leads, Body 1.00x0.50mm, IPC Medium Density)
pins: 1, 2

## R_12_0805
designator R?, comment value 12  Tolerance: 0.1%  (hidden comment: Chip resistor)
Chip resistor, 12, 0805 package, current sense; Temerature Coef: 25 ppm; Power: 0.1 W; package: 0805; Supplier 1: Digi-Key; Supplier Part Number 1: A103150CT-ND
footprint 0805 (Chip Resistor, Body 2.0x1.2mm, IPC Low Density)
pins: 1, 2

## R_12K_0402
designator R?, comment value 12K  (hidden comment: Chip resistor)
Chip resistor, 12K, 0402 package; tolerance: 1%; power: 1/16 W; package: 0402; Supplier 1: Digi-Key; Supplier Part Number 1: 541-12.0KLCT-ND
footprint 0402 (Chip Resistor, 2-Leads, Body 1.00x0.50mm, IPC Medium Density)
pins: 1, 2

## R_18K_0603
designator R?, comment value 18K  (hidden comment: Chip resistor)
Chip resistor, 18K, 0603 package; tolerance: 1%; power: 1/10 W; package: 0603; Supplier 1: Digi-Key; Supplier Part Number 1: 311-18.0KHRCT-ND
footprint 0603 (2-Leads, Body 1.55x0.85mm, IPC Medium Density)
pins: 1, 2

## R_20K_0402
designator R?, comment value 20K  (hidden comment: Chip resistor)
Chip resistor, 20K, 0402 package; tolerance: 1%; power: 1/16 W; package: 0402; Supplier 1: Digi-Key; Supplier Part Number 1: 541-20.0KLCT-ND
footprint 0402 (Chip Resistor, 2-Leads, Body 1.00x0.50mm, IPC Medium Density)
pins: 1, 2

## R_20K_0603
designator R?, comment value 20K  (hidden comment: Chip resistor)
Chip resistor, 20K, 0603 package; tolerance: 1%; power: 1/10 W; package: 0603; Supplier 1: Digi-Key; Supplier Part Number 1: 541-20.0KHCT-ND
footprint 0603 (2-Leads, Body 1.55x0.85mm, IPC Medium Density)
pins: 1, 2

## R_22.6_0805_1%
designator R?, comment value 22.6  (hidden comment: Chip resistor)
Chip resistor, 22.6, 0805 package, 1%; power: 1/8 W; tolerance: 1%; package: 0805; Supplier 1: Digi-Key; Supplier Part Number 1: 541-22.6CCT-ND
footprint 0805 (Chip Resistor, Body 2.0x1.2mm, IPC Low Density)
pins: 1, 2

## R_22K_0402
designator R?, comment value 22K  (hidden comment: Chip resistor)
Chip resistor, 22K, 0402 package; tolerance: 1%; power: 1/16 W; package: 0402; Supplier 1: Digi-Key; Supplier Part Number 1: 541-22.0KLCT-ND
footprint 0402 (Chip Resistor, 2-Leads, Body 1.00x0.50mm, IPC Medium Density)
pins: 1, 2

## R_24.9K_0402
designator R?, comment value 24.9K  (hidden comment: Chip resistor)
Chip resistor, 24.9K, 0402 package; tolerance: 1%; power: 1/16 W; package: 0402; Supplier 1: Digi-Key; Supplier Part Number 1: 541-24.9KLCT-ND
footprint 0402 (2-Leads, Body 1.00x0.50mm, IPC Medium Density)
pins: 1, 2

## R_24.9K_0603
designator R?, comment value 24.9K  (hidden comment: Chip resistor)
Chip resistor, 24.9K, 0603 package; tolerance: 1%; power: 1/10 W; package: 0603; Supplier 1: Digi-Key; Supplier Part Number 1: 541-24.9KHCT-ND
footprint 0603 (2-Leads, Body 1.55x0.85mm, IPC Medium Density)
pins: 1, 2

## R_27.4K_0805_1%
designator R?, comment value 27.4K  (hidden comment: Chip resistor)
Chip resistor, 27.4K, 0805 package, 1%; power: 1/8 W; tolerance: 1%; package: 0805; Supplier 1: Digi-Key; Supplier Part Number 1: 541-27.4KCCT-ND
footprint 0805 (Chip Resistor, Body 2.0x1.2mm, IPC Low Density)
pins: 1, 2

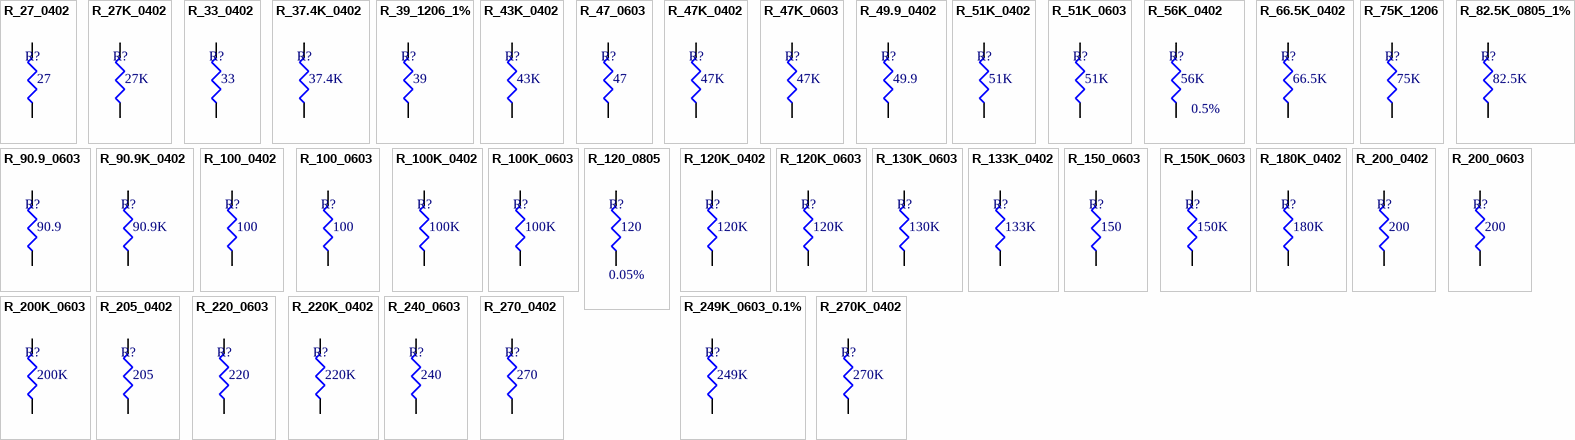
[diagram p4: symbols R_27_0402 to R_270K_0402]